# EAGLE library part 691413720011 (library Terminal_Blocks_Connectors_rev15e)
WR-TBL Terminal block - serie 413 5.0mm - Spring clamp/Screw less - 45° entry - 11p Code:Con_TBL_Screwless_5.00_6914137200xxB_691413720011 <http://katalog.we-online.de/media/images/eican/Con_TBL_Screwless_5.00_6914137200xxB_pf2.jpg> Details see: http://katalog.we-online.de/en/em/691_413_720_0xxB/691_413_720_011B?m Created 2014-12-22, aslant tao 2014 (C) Würth Elektronik
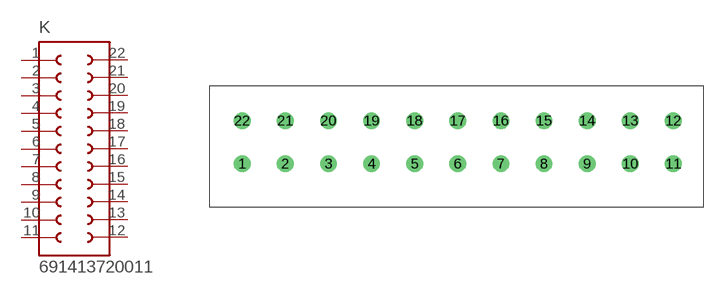
[diagram p288: symbol with the pads of 691413720011; footprint 691413720011]

Designator prefix K

## 691413720011  [691413720011]
1  1  pas
2  2  pas
3  3  pas
4  4  pas
5  5  pas
6  6  pas
7  7  pas
8  8  pas
9  9  pas
10  10  pas
11  11  pas
12  12  pas
13  13  pas
14  14  pas
15  15  pas
16  16  pas
17  17  pas
18  18  pas
19  19  pas
20  20  pas
21  21  pas
22  22  pas

## Footprint 691413720011 (pad centres in mm)
WR-TBL Serie 413 - 5.0mm Screwless 45° Entry - 3 mm2 Wires, 11 Pins
drill 1.3: 1 -5,-2.5; 2 0,-2.5; 3 5,-2.5; 4 10,-2.5; 5 15,-2.5; 6 20,-2.5; 7 25,-2.5; 8 30,-2.5; 9 35,-2.5; 10 40,-2.5; 11 45,-2.5; 12 45,2.5; 13 40,2.5; 14 35,2.5; 15 30,2.5; 16 25,2.5; 17 20,2.5; 18 15,2.5; 19 10,2.5; 20 5,2.5; 21 0,2.5; 22 -5,2.5